# EAGLE library part MIC2025 (library Flying Camp Design)
Single-Channel Power Distribution Switch
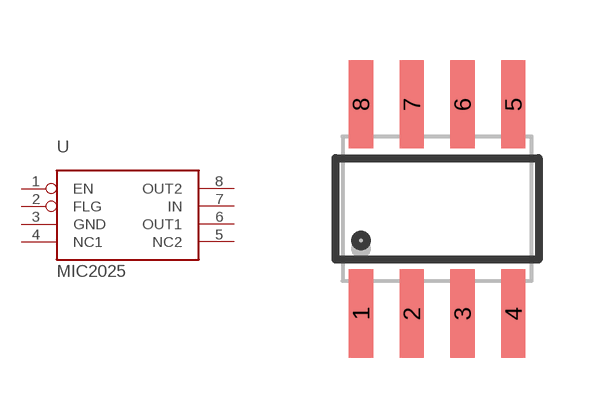
[diagram p4: symbol with the pads of SOIC-8; footprint SOIC-8]

Designator prefix U

## MIC2025/SOIC-8  [SOIC-8]
1  EN  in
2  FLG  out
3  GND  pwr
4  NC1  nc
5  NC2  nc
6  OUT1  pwr
7  IN  pwr
8  OUT2  pwr

## Footprint SOIC-8 (pad centres in mm)
Small Outline Package
smd 0.61 x 2.21: 1 -1.905,-2.616; 2 -0.635,-2.616; 3 0.635,-2.616; 4 1.905,-2.616; 5 1.905,2.616; 6 0.635,2.616; 7 -0.635,2.616; 8 -1.905,2.616